# EAGLE library part MPU6050 (library BLIMP)
Inertial Measurement Unit
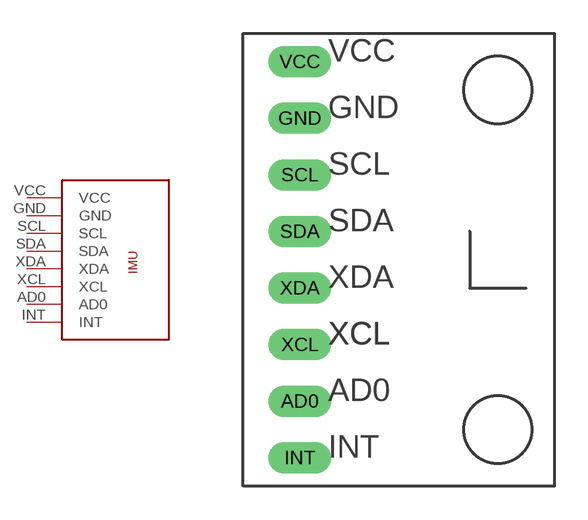
[diagram p0: symbol with the pads of MPU6050; footprint MPU6050]

Designator prefix IMU

## MPU6050  [MPU6050]
AD0  AD0
GND  GND
INT  INT
SCL  SCL
SDA  SDA
VCC  VCC
XCL  XCL
XDA  XDA

## Footprint MPU6050 (pad centres in mm)
Inertial Measurement Unit
drill 0.9 pad 1.27 long: AD0 -3.81,-6.35; GND -3.81,6.35; INT -3.81,-8.89; SCL -3.81,3.81; SDA -3.81,1.27; VCC -3.81,8.89; XCL -3.81,-3.81; XDA -3.81,-1.27